# Altium schematic symbol library Polar_Conn_Shield.SchLib: 1 symbol
Pins are listed as number, name and electrical type; pins without a type are passive.

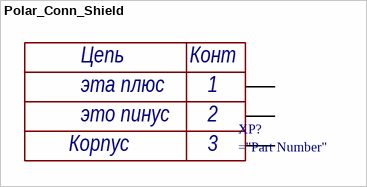
[diagram p0: symbol Polar_Conn_Shield]

## Polar_Conn_Shield
designator XP?  Value3: Корпус  Value2: это пинус  Value1: эта плюс
полярный коннектор для силовых разъемов
pins: 0, N, P
text: Цепь; Конт; 1; 2; 3